# EAGLE library part PCA9605D (library AKA_test)
PCA9605 Simple 2-wire bus buffer The PCA9605 is a monolithic CMOS integrated circuit for bus buffering in applications including I2C-bus, SMBus, DDC, PMBus, and other systems based on similar principles. The buffer extends the bus load limit by buffering both the SCL and SDA lines, allowing the maximum permissible bus capacitance on both sides of the buffer plastic small outline package; 8 leads; body width 3.9 mm
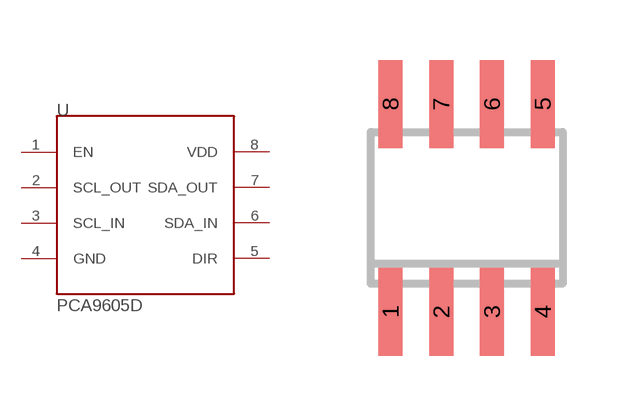
[diagram p5: symbol with the pads of SO8; footprint SO8]

Designator prefix -

## PCA9605D  [SO8]
1  EN
2  SCL_OUT
3  SCL_IN
4  GND  pwr
5  DIR
6  SDA_IN
7  SDA_OUT
8  VDD  pwr

## Footprint SO8 (pad centres in mm)
SMALL OUTLINE INTEGRATED CIRCUIT
smd 0.6 x 2.2: 1 -1.905,-2.6; 2 -0.635,-2.6; 3 0.635,-2.6; 4 1.905,-2.6; 5 1.905,2.6; 6 0.635,2.6; 7 -0.635,2.6; 8 -1.905,2.6